# EAGLE library part SBH11-NBPC-D15 (library con-sullins)
HEADER - Vertical, Shrouded
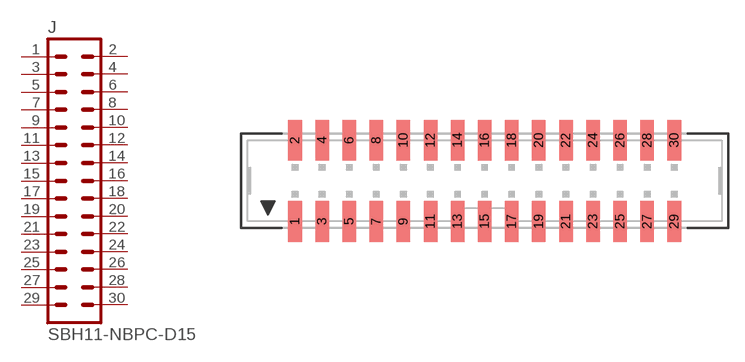
[diagram p27: symbol with the pads of SBH11-NBPC-D15; footprint SBH11-NBPC-D15]

Designator prefix J

## SBH11-NBPC-D15  [SBH11-NBPC-D15]
1  1  pas
2  2  pas
3  3  pas
4  4  pas
5  5  pas
6  6  pas
7  7  pas
8  8  pas
9  9  pas
10  10  pas
11  11  pas
12  12  pas
13  13  pas
14  14  pas
15  15  pas
16  16  pas
17  17  pas
18  18  pas
19  19  pas
20  20  pas
21  21  pas
22  22  pas
23  23  pas
24  24  pas
25  25  pas
26  26  pas
27  27  pas
28  28  pas
29  29  pas
30  30  pas

## Footprint SBH11-NBPC-D15 (pad centres in mm)
SMD HEADER - 0.1", Shrouded, Vertical
smd 1.27 x 3.81: 1 -17.78,-3.81; 2 -17.78,3.81; 3 -15.24,-3.81; 4 -15.24,3.81; 5 -12.7,-3.81; 6 -12.7,3.81; 7 -10.16,-3.81; 8 -10.16,3.81; 9 -7.62,-3.81; 10 -7.62,3.81; 11 -5.08,-3.81; 12 -5.08,3.81; 13 -2.54,-3.81; 14 -2.54,3.81; 15 0,-3.81; 16 0,3.81; 17 2.54,-3.81; 18 2.54,3.81; 19 5.08,-3.81; 20 5.08,3.81; 21 7.62,-3.81; 22 7.62,3.81; 23 10.16,-3.81; 24 10.16,3.81; 25 12.7,-3.81; 26 12.7,3.81; 27 15.24,-3.81; 28 15.24,3.81; 29 17.78,-3.81; 30 17.78,3.81